# Altium schematic symbol library LaserDiode_Driver.SchLib: 93 symbols (part 1 of 3)
Pins are listed as number, name and electrical type; pins without a type are passive.

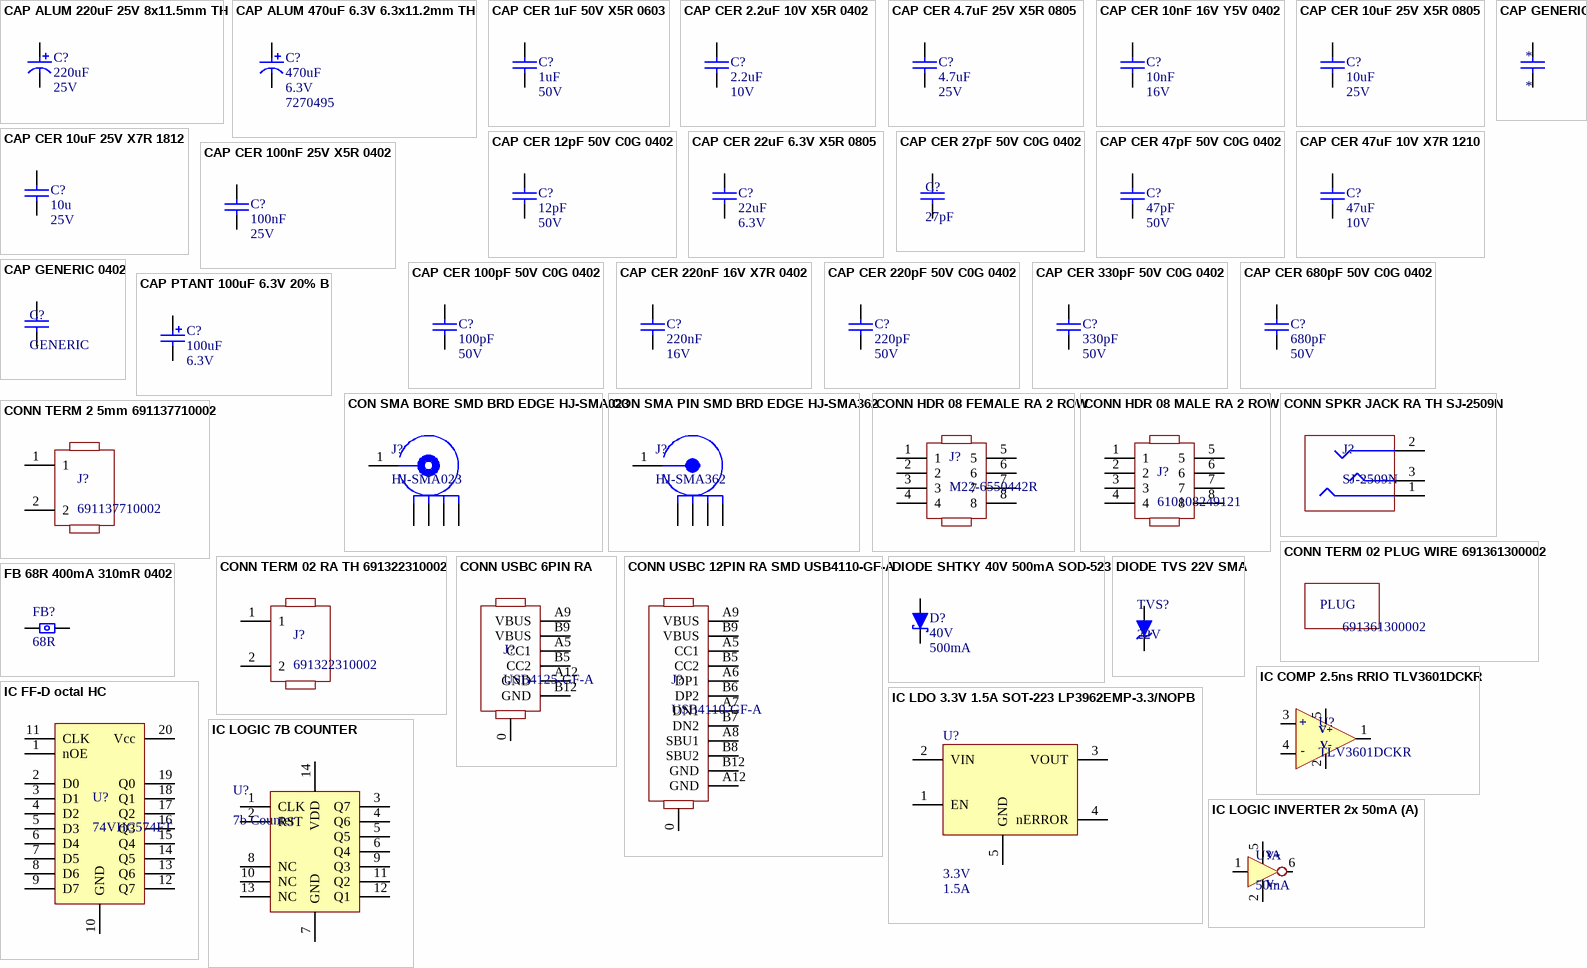
[diagram p0: symbols CAP ALUM 220uF 25V 8x11.5mm TH to IC LOGIC INVERTER 2x 50mA]

## CAP ALUM 220uF 25V 8x11.5mm TH
designator C?, comment 220uF  Voltage Rating: 25V
CAP ALUM 220UF 20% 25V RADIAL; Manufacturer: Rubycon; Manufacturer Part Number: 25YXF220MEFCT78X11.5; Ripple Current: 280mA; Impedance: 250mR; Life (Hours): 7000Hour; Supplier 1: Digi-Key; RoHS: Yes; Category: Aluminum Electrolytic Capacitors; Stock 1: 1712; Pricing 1: 1=0.37000, 10=0.26000, 50=0.18180, 100=0.15590, 500=0.11692 (USD); Mount: Through Hole; Case/Package: Radial; Min Operating Temperature: -40°C; Max Operating Temperature: 105°C; Capacitance: 220uF; Tolerance: 20%; Termination: Radial; Package Quantity: 2000; Packaging: Tape and Reel; Series: YXF; Diameter: 8mm; Height: 11.5mm; Lead Pitch: 0.138inch; Height - Seated (Max): 0.512inch; Radiation Hardening: No; RoHS Compliant: Yes; ComponentLink1URL: https://datasheet.ciiva.com/6318/e-yxf-6318234.pdf?src-supplier=Digi-Key; ComponentLink1Description: https://datasheet.ciiva.com/6318/e-yxf-6318234.pdf?src-supplier=Digi-Key; ComponentLink2URL: https://datasheet.ciiva.com/17512/e-yxf-17512937.pdf?src-supplier=Avnet+Europe; ComponentLink2Description: https://datasheet.ciiva.com/17512/e-yxf-17512937.pdf?src-supplier=Avnet+Europe; Supplier Part Number 1: 1189-3720-1-ND
footprint CAP ALUM S3.5mm D8mm H13mm
pins: 1, 2

## CAP ALUM 470uF 6.3V 6.3x11.2mm TH
designator C?, comment 470uF  Voltage Rating: 6.3V  Supplier Part Number 1: 7270495
Cap Aluminum 470uF 6.3V 20% (6.3 X 11.2mm) Radial 2.5mm 380mA 2000h 85 C Bulk; Manufacturer: Panasonic; Manufacturer Part Number: ECA-0JM471; Dielectric Material: Aluminium; Life (Hours): 2000Hour; Dissipation Factor: 0.28%; Lead/Base Style: Straight; Leakage Current: 3uA; Lead Diameter: 0.5mm; Supplier 1: RSComponents; RoHS: Yes; Category: Aluminum Electrolytic Capacitors; Stock 1: 1; Pricing 1: 25=0.12800, 625=0.07000, 2500=0.05800 (USD); Mount: Through Hole,PCB; Case/Package: Radial; Number of Pins: 2; Min Operating Temperature: -40°C; Max Operating Temperature: 85°C; Capacitance: 470uF; Tolerance: 20%; Ripple Current: 380mA; Packaging: Bulk; Package Quantity: 200; Voltage Rating (DC): 6.3V; Termination: Radial; Series: M; Construction: RADIAL; Voltage: 6.3V; Diameter: 6.3mm; Length: 11.2mm; Height: 11.2mm; Lead Pitch: 2.5mm; Height - Seated (Max): 0.48inch; Radiation Hardening: No; Lead Free: Lead Free; RoHS Compliant: Yes; REACH SVHC: No SVHC; ComponentLink1URL: https://datasheet.ciiva.com/11778/0900766b80f2e8a9-11778665.pdf?src-supplier=RSComponents; ComponentLink1Description: https://datasheet.ciiva.com/11778/0900766b80f2e8a9-11778665.pdf?src-supplier=RSComponents; ComponentLink2URL: https://datasheet.ciiva.com/91/aba0000ce12-91880.pdf?src-supplier=Digi-Key; ComponentLink2Description: https://datasheet.ciiva.com/91/aba0000ce12-91880.pdf?src-supplier=Digi-Key; ComponentLink3URL: https://datasheet.ciiva.com/2983/aba0000ce12-2983819.pdf?src-supplier=Avnet; ComponentLink3Description: https://datasheet.ciiva.com/2983/aba0000ce12-2983819.pdf?src-supplier=Avnet; ComponentLink4URL: https://datasheet.ciiva.com/48521/radial-m-eng-tds-48521274.pdf?src-supplier=Distrelec; ComponentLink4Description: https://datasheet.ciiva.com/48521/radial-m-eng-tds-48521274.pdf?src-supplier=Distrelec; ComponentLink5URL: https://datasheet.ciiva.com/24024/aba0000ce12-465472-24024007.pdf?src-supplier=Mouser; ComponentLink5Description: https://datasheet.ciiva.com/24024/aba0000ce12-465472-24024007.pdf?src-supplier=Mouser; ComponentLink6URL: https://datasheet.ciiva.com/30116/49aba0000ce12-30116557.pdf?src-supplier=Onlinecomponents.com; ComponentLink6Description: https://datasheet.ciiva.com/30116/49aba0000ce12-30116557.pdf?src-supplier=Onlinecomponents.com; ComponentLink7URL: https://datasheet.ciiva.com/15924/aba0000ce12-15924679.pdf?src-supplier=Onlinecomponents.com; ComponentLink7Description: https://datasheet.ciiva.com/15924/aba0000ce12-15924679.pdf?src-supplier=Onlinecomponents.com; ComponentLink8URL: https://datasheet.ciiva.com/46387/654936-46387366.pdf?src-supplier=Element14; ComponentLink8Description: https://datasheet.ciiva.com/46387/654936-46387366.pdf?src-supplier=Element14; ComponentLink9URL: https://datasheet.ciiva.com/15166/getdatasheetpartid-195742-15166346.pdf?src-supplier=Verical; ComponentLink9Description: https://datasheet.ciiva.com/15166/getdatasheetpartid-195742-15166346.pdf?src-supplier=Verical; ComponentLink10URL: https://datasheet.ciiva.com/14607/70067785-14607485.pdf?src-supplier=Allied+Electronics; ComponentLink10Description: https://datasheet.ciiva.com/14607/70067785-14607485.pdf?src-supplier=Allied+Electronics
footprint CAP ALUM S2.5mm D6.3mm H11mm
pins: 1, 2

## CAP CER 1uF 50V X5R 0603
designator C?, comment 1uF  Voltage Rating: 50V
Multilayer Ceramic Capacitors (High dielectric type), 50V, 1 uF, ± 10 %, 0603, X5R, RoHS; Manufacturer: Taiyo Yuden; Manufacturer Part Number: UMK107BJ105KA-T; Tolerance: 10%; Supplier 1: Digi-Key; RoHS: Yes; Category: Ceramic Capacitors; Stock 1: 955108; Pricing 1: 1=0.19000, 10=0.12900, 50=0.07760, 100=0.06560, 500=0.04484, 1000=0.03968 (USD); Mount: Surface Mount; Case/Package: 0603; Number of Pins: 2; Case Code (Metric): 1608; Case Code (Imperial): 0603; Contact Plating: Nickel; Min Operating Temperature: -55°C; Max Operating Temperature: 85°C; Capacitance: 1uF; Packaging: Tape and Reel; Package Quantity: 1; Dielectric: X5R; Voltage Rating (DC): 50V; Termination: SMD/SMT; Series: M; Construction: Flat; Length: 1.6mm; Width: 0.031inch; Height: 0.8mm; Depth: 0.8mm; Thickness: 0.035inch; Radiation Hardening: No; RoHS Compliant: Yes; REACH SVHC: Unknown; Halogen Free: Halogen Free; ComponentLink1URL: https://datasheet.ciiva.com/134/umk107bj105ka-t-ss-134740.pdf?src-supplier=Digi-Key; ComponentLink1Description: https://datasheet.ciiva.com/134/umk107bj105ka-t-ss-134740.pdf?src-supplier=Digi-Key; ComponentLink2URL: https://datasheet.ciiva.com/11601/umk107bj105ka-t-ss-11601811.pdf?src-supplier=Avnet; ComponentLink2Description: https://datasheet.ciiva.com/11601/umk107bj105ka-t-ss-11601811.pdf?src-supplier=Avnet; ComponentLink3URL: https://datasheet.ciiva.com/5744/1697715-5744913.pdf?src-supplier=Farnell; ComponentLink3Description: https://datasheet.ciiva.com/5744/1697715-5744913.pdf?src-supplier=Farnell; ComponentLink4URL: https://datasheet.ciiva.com/30199/43umk107bj105ka-t-30199791.pdf?src-supplier=Onlinecomponents.com; ComponentLink4Description: https://datasheet.ciiva.com/30199/43umk107bj105ka-t-30199791.pdf?src-supplier=Onlinecomponents.com; ComponentLink5URL: https://datasheet.ciiva.com/15922/336umk107bj105ka-t-15922611.pdf?src-supplier=Onlinecomponents.com; ComponentLink5Description: https://datasheet.ciiva.com/15922/336umk107bj105ka-t-15922611.pdf?src-supplier=Onlinecomponents.com; ComponentLink6URL: https://datasheet.ciiva.com/5427/mlcc-all-e-541559-5427036.pdf?src-supplier=Mouser; ComponentLink6Description: https://datasheet.ciiva.com/5427/mlcc-all-e-541559-5427036.pdf?src-supplier=Mouser; ComponentLink7URL: https://datasheet.ciiva.com/7975/mlcc-all-e-7975898.pdf?src-supplier=Element14; ComponentLink7Description: https://datasheet.ciiva.com/7975/mlcc-all-e-7975898.pdf?src-supplier=Element14; ComponentLink8URL: https://datasheet.ciiva.com/7975/1697715-7975608.pdf?src-supplier=Element14; ComponentLink8Description: https://datasheet.ciiva.com/7975/1697715-7975608.pdf?src-supplier=Element14; ComponentLink9URL: https://datasheet.ciiva.com/22694/1697715-22694278.pdf?src-supplier=Element14; ComponentLink9Description: https://datasheet.ciiva.com/22694/1697715-22694278.pdf?src-supplier=Element14; Supplier Part Number 1: 587-2400-1-ND
footprint c0603
pins: 1, 2

## CAP CER 2.2uF 10V X5R 0402
designator C?, comment 2.2uF  Voltage Rating: 10V
-; Manufacturer: Taiyo Yuden; Manufacturer Part Number: LMK105BJ225MV-F; Tolerance: 20%; Dielectric: X5R; Supplier 1: Newark; RoHS: Yes; Category: Ceramic Capacitors; Stock 1: 2002; Pricing 1: 1=0.10000, 25=0.03300, 100=0.02300, 250=0.02000, 500=0.01700, 1000=0.01500 (USD); Mount: Surface Mount; Case/Package: 0402; Case Code (Imperial): 0402; Case Code (Metric): 1005; Min Operating Temperature: -55°C; Max Operating Temperature: 85°C; Packaging: Tape and Reel; Capacitance: 2.2uF; Package Quantity: 1; Voltage Rating (DC): 10V; Termination: SMD/SMT; Series: M; Construction: Flat; Resistor Type: Ceramic; Length: 1mm; Width: 0.5mm; Height: 0.5mm; Thickness: 0.022inch; Depth: 0.5mm; Radiation Hardening: No; RoHS Compliant: Yes; REACH SVHC: Unknown; Halogen Free: Halogen Free; ComponentLink1URL: https://datasheet.ciiva.com/134/lmk105bj225mv-f-ss-134677.pdf?src-supplier=Digi-Key; ComponentLink1Description: https://datasheet.ciiva.com/134/lmk105bj225mv-f-ss-134677.pdf?src-supplier=Digi-Key; ComponentLink2URL: https://datasheet.ciiva.com/23631/lmk105bj225mv-f-ss-23631491.pdf?src-supplier=Newark; ComponentLink2Description: https://datasheet.ciiva.com/23631/lmk105bj225mv-f-ss-23631491.pdf?src-supplier=Newark; ComponentLink3URL: https://datasheet.ciiva.com/15921/286lmk105bj225mv-f-15921222.pdf?src-supplier=Onlinecomponents.com; ComponentLink3Description: https://datasheet.ciiva.com/15921/286lmk105bj225mv-f-15921222.pdf?src-supplier=Onlinecomponents.com; ComponentLink4URL: https://datasheet.ciiva.com/30190/500lmk105bj225mv-f-30190498.pdf?src-supplier=Onlinecomponents.com; ComponentLink4Description: https://datasheet.ciiva.com/30190/500lmk105bj225mv-f-30190498.pdf?src-supplier=Onlinecomponents.com; Supplier Part Number 1: 78T6311
footprint C0402
pins: 1, 2

## CAP CER 4.7uF 25V X5R 0805
designator C?, comment 4.7uF  Voltage Rating: 25V
Cap Ceramic 4.7uF 25V X5R 10% SMD 0805 85C Embossed T/R; Manufacturer: Samsung; Manufacturer Part Number: CL21A475KAQNNNE; Supplier 1: Digi-Key; RoHS: Yes; Category: Ceramic Capacitors; Stock 1: 3540; Pricing 1: 1=0.11000, 10=0.08000, 50=0.04520, 100=0.03740, 500=0.02624, 1000=0.02172 (USD); Mount: Surface Mount; Case/Package: 0805; Case Code (Metric): 2012; Case Code (Imperial): 0805; Min Operating Temperature: -55°C; Max Operating Temperature: 85°C; Package Quantity: 1; Packaging: Tape and Reel; Capacitance: 4.7uF; Tolerance: 10%; Dielectric: X5R; Voltage Rating (DC): 25V; Series: CL; Construction: Flat; Length: 2mm; Width: 0.049inch; Height: 1.25mm; Thickness: 0.055inch; Depth: 1.25mm; Radiation Hardening: No; Lead Free: Lead Free; RoHS Compliant: Yes; ComponentLink1URL: https://datasheet.ciiva.com/25798/cl21a475kaqnnne-25798882.pdf?src-supplier=Digi-Key; ComponentLink1Description: https://datasheet.ciiva.com/25798/cl21a475kaqnnne-25798882.pdf?src-supplier=Digi-Key; Supplier Part Number 1: 1276-1244-1-ND
footprint c0805
pins: 1, 2

## CAP CER 10nF 16V Y5V 0402
designator C?, comment 10nF  Voltage Rating: 16V
0402 10 nF 16 V -20 / +80 % Tolerance Y5V SMT Multilayer Ceramic Capacitor; Manufacturer: Yageo; Manufacturer Part Number: CC0402ZRY5V7BB103; Tolerance: 80%; Insulation Resistance: 100GR; Supplier 1: Future Electronics; RoHS: Yes; Category: Ceramic Capacitors; Stock 1: 10000; Pricing 1: 10000=0.00340, 30000=0.00320, 100000=0.00300, 200000=0.00290, 400000=0.00270 (USD); Mount: Surface Mount; Case/Package: 0402; Number of Pins: 2; Case Code (Imperial): 0402; Case Code (Metric): 1005; Dielectric Material: Ceramic; Min Operating Temperature: -55°C; Max Operating Temperature: 85°C; Capacitance: 10nF; Packaging: Tape and Reel; Voltage Rating (DC): 16V; Dielectric: Y5V; Termination: SMD/SMT; Series: CC; Package Quantity: 10000; Construction: Flat; Length: 1mm; Width: 0.02inch; Height: 0.5mm; Depth: 0.5mm; Thickness: 0.022inch; Terminal Length: 0.225mm; Radiation Hardening: No; RoHS Compliant: Yes; Lead Free: Lead Free; REACH SVHC: No SVHC; Halogen Free: Halogen Free; ComponentLink1URL: https://datasheet.ciiva.com/144/mlccorderingcode-144484.pdf?src-supplier=Digi-Key; ComponentLink1Description: https://datasheet.ciiva.com/144/mlccorderingcode-144484.pdf?src-supplier=Digi-Key; ComponentLink2URL: https://datasheet.ciiva.com/144/mlccorderingcode-144485.pdf?src-supplier=Digi-Key; ComponentLink2Description: https://datasheet.ciiva.com/144/mlccorderingcode-144485.pdf?src-supplier=Digi-Key; ComponentLink3URL: https://datasheet.ciiva.com/144/mlccorderingcode-144486.pdf?src-supplier=Digi-Key; ComponentLink3Description: https://datasheet.ciiva.com/144/mlccorderingcode-144486.pdf?src-supplier=Digi-Key; ComponentLink4URL: https://datasheet.ciiva.com/11586/upy-gphc-y5v-6-3v-to-50v-5-11586517.pdf?src-supplier=Avnet; ComponentLink4Description: https://datasheet.ciiva.com/11586/upy-gphc-y5v-6-3v-to-50v-5-11586517.pdf?src-supplier=Avnet; ComponentLink5URL: https://datasheet.ciiva.com/5789/1132289-5789565.pdf?src-supplier=Farnell; ComponentLink5Description: https://datasheet.ciiva.com/5789/1132289-5789565.pdf?src-supplier=Farnell; ComponentLink6URL: https://datasheet.ciiva.com/5789/1132289-5789566.pdf?src-supplier=Farnell; ComponentLink6Description: https://datasheet.ciiva.com/5789/1132289-5789566.pdf?src-supplier=Farnell; ComponentLink7URL: https://datasheet.ciiva.com/17437/upy-gphc-y5v-6-3v-to-50v-5-17437221.pdf?src-supplier=Avnet+Europe; ComponentLink7Description: https://datasheet.ciiva.com/17437/upy-gphc-y5v-6-3v-to-50v-5-17437221.pdf?src-supplier=Avnet+Europe; ComponentLink8URL: https://datasheet.ciiva.com/8033/1132289-8033641.pdf?src-supplier=Element14; ComponentLink8Description: https://datasheet.ciiva.com/8033/1132289-8033641.pdf?src-supplier=Element14; ComponentLink9URL: https://datasheet.ciiva.com/8033/1132289-8033642.pdf?src-supplier=Element14; ComponentLink9Description: https://datasheet.ciiva.com/8033/1132289-8033642.pdf?src-supplier=Element14; Supplier Part Number 1: 1300987
footprint c0402
pins: 1, 2

## CAP CER 10uF 25V X5R 0805
designator C?, comment 10uF  Voltage Rating: 25V
Cap Ceramic 10uF 25V X5R 10% SMD 0805 85°C Embossed T/R; Manufacturer: Samsung; Manufacturer Part Number: CL21A106KAYNNNE; Supplier 1: Digi-Key; RoHS: Yes; Category: Ceramic Capacitors; Stock 1: 2266338; Pricing 1: 2000=0.03549, 4000=0.03247 (USD); Mount: Surface Mount; Case/Package: 0805; Case Code (Metric): 2012; Case Code (Imperial): 0805; Min Operating Temperature: -55°C; Max Operating Temperature: 85°C; Package Quantity: 1; Packaging: Tape and Reel; Capacitance: 10uF; Tolerance: 10%; Dielectric: X5R; Series: CL; Construction: Flat; Length: 2mm; Width: 0.049inch; Height: 1.25mm; Depth: 1.25mm; Thickness: 0.057inch; Radiation Hardening: No; RoHS Compliant: Yes; ComponentLink1URL: https://datasheet.ciiva.com/25796/cl21a106kaynnne-25796720.pdf?src-supplier=Digi-Key; ComponentLink1Description: https://datasheet.ciiva.com/25796/cl21a106kaynnne-25796720.pdf?src-supplier=Digi-Key; ComponentLink2URL: https://datasheet.ciiva.com/26838/getdatasheetpartid-357558-26838583.pdf?src-supplier=Verical; ComponentLink2Description: https://datasheet.ciiva.com/26838/getdatasheetpartid-357558-26838583.pdf?src-supplier=Verical; Supplier Part Number 1: 1276-2891-2-ND
footprint c0805
pins: 1, 2

## CAP CER 10uF 25V X7R 1812
designator C?, comment 10u  Voltage Rating: 25V
CGA Series 1812 10 uF 25 V ±10 % Tolerance X7R SMT Multilayer Ceramic Capacitor; Manufacturer: TDK; Manufacturer Part Number: CGA8P2X7R1E106K250KA; Tolerance: 10%; Capacitance: 10uF; Supplier 1: Arrow Electronics; RoHS: Yes; Category: Ceramic Capacitors; Stock 1: 3000; Pricing 1: 500=0.41050 (USD); Mount: Surface Mount; Case/Package: 1812; Case Code (Imperial): 1812; Case Code (Metric): 4532; Weight: 0.000952oz; Min Operating Temperature: -55°C; Max Operating Temperature: 125°C; Packaging: Tape and Reel; Termination: SMD/SMT; Series: CGA; Voltage Rating (DC): 25V; Package Quantity: 500; Dielectric: X7R; Resistor Type: Ceramic; Length: 4.5mm; Width: 3.2mm; Height: 1.6mm; Thickness: 0.098inch; Depth: 3.2mm; Ratings: AEC-Q200; Lead Free: Lead Free; RoHS Compliant: Yes; ComponentLink1URL: https://datasheet.ciiva.com/24217/cga8p2x7r1e106k250ka-266081-24217140.pdf?src-supplier=Mouser; ComponentLink1Description: https://datasheet.ciiva.com/24217/cga8p2x7r1e106k250ka-266081-24217140.pdf?src-supplier=Mouser; Supplier Part Number 1: CGA8P2X7R1E106K250KA
footprint c1812 (Chip Capacitor, 2-Leads, Body 4.50x3.20mm, IPC Medium Density)
pins: 1, 2

## CAP CER 12pF 50V C0G 0402
designator C?, comment 12pF  Voltage: 50V
Ceramic capacitor SMD-0402 12pF /50V C0G# J +-5%, Samsung, RoHS; Manufacturer Part Number: CL05C120JB5NNNC; Tolerance: 5%; Dielectric: C0G; Temperature Coefficient: 300ppm/°C; Supplier 1: Digi-Key; Manufacturer: Samsung; RoHS: Yes; Category: Ceramic Capacitors; Stock 1: 41998; Pricing 1: 10000=0.00386, 20000=0.00367 (USD); Mount: Surface Mount; Case/Package: 0402; Case Code (Metric): 1005; Case Code (Imperial): 0402; Material: Ceramic; Contact Plating: Tin; Min Operating Temperature: -55°C; Max Operating Temperature: 125°C; Capacitance: 12pF; Package Quantity: 1; Packaging: Tape and Reel; Voltage Rating: 50V; Series: CL; Construction: Flat; Voltage Rating (DC): 50V; Length: 1mm; Width: 0.02inch; Height: 0.5mm; Thickness: 0.022inch; Depth: 0.5mm; Radiation Hardening: No; RoHS Compliant: Yes; Lead Free: Lead Free; ComponentLink1URL: https://datasheet.ciiva.com/25806/cl05c120jb5nnnc-25806484.pdf?src-supplier=Digi-Key; ComponentLink1Description: https://datasheet.ciiva.com/25806/cl05c120jb5nnnc-25806484.pdf?src-supplier=Digi-Key; ComponentLink2URL: https://datasheet.ciiva.com/26838/getdatasheetpartid-658047-26838280.pdf?src-supplier=Verical; ComponentLink2Description: https://datasheet.ciiva.com/26838/getdatasheetpartid-658047-26838280.pdf?src-supplier=Verical; ComponentLink3URL: https://datasheet.ciiva.com/29198/458703-da-01-en-vs-kondensator-0402-29198421.pdf?src-supplier=Conrad; ComponentLink3Description: https://datasheet.ciiva.com/29198/458703-da-01-en-vs-kondensator-0402-29198421.pdf?src-supplier=Conrad; ComponentLink4URL: https://datasheet.ciiva.com/16449/cl05b104kq5nnnc-16449055.pdf?src-supplier=Future+Electronics; ComponentLink4Description: https://datasheet.ciiva.com/16449/cl05b104kq5nnnc-16449055.pdf?src-supplier=Future+Electronics; Supplier Part Number 1: 1276-1178-2-ND
footprint C0402
pins: 1, 2

## CAP CER 22uF 6.3V X5R 0805
designator C?, comment 22uF  Voltage Rating (DC): 6.3V
CAP CER 22UF 6.3V X5R 0805 / Cap Ceramic 22uF 6.3V X5R 20% Pad SMD 0805 85¡ãC T/R; Manufacturer: Samsung; Manufacturer Part Number: CL21A226MQQNNNE; Supplier 1: Digi-Key; RoHS: Yes; Category: Ceramic Capacitors; Stock 1: 657907; Pricing 1: 1=0.14000, 10=0.10200, 50=0.05780, 100=0.04780, 500=0.03356, 1000=0.02778 (USD); Mount: Surface Mount; Case/Package: 0805; Case Code (Metric): 2012; Case Code (Imperial): 0805; Contact Plating: Tin; Min Operating Temperature: -55°C; Max Operating Temperature: 85°C; Capacitance: 22uF; Tolerance: 20%; Dielectric: X5R; Package Quantity: 2000; Packaging: Tape and Reel; Voltage Rating: 6.3V; Series: CL; Length: 0.079inch; Width: 0.049inch; Height: 1.25mm; Thickness: 0.055inch; Depth: 1.25mm; Radiation Hardening: No; Lead Free: Lead Free; RoHS Compliant: Yes; ComponentLink1URL: https://datasheet.ciiva.com/25796/cl21a226mqqnnne-25796195.pdf?src-supplier=Digi-Key; ComponentLink1Description: https://datasheet.ciiva.com/25796/cl21a226mqqnnne-25796195.pdf?src-supplier=Digi-Key; ComponentLink2URL: https://datasheet.ciiva.com/26838/getdatasheetpartid-357607-26838611.pdf?src-supplier=Verical; ComponentLink2Description: https://datasheet.ciiva.com/26838/getdatasheetpartid-357607-26838611.pdf?src-supplier=Verical; ComponentLink3URL: https://datasheet.ciiva.com/16361/cl21a226mqqnnne-16361189.pdf?src-supplier=Future+Electronics; ComponentLink3Description: https://datasheet.ciiva.com/16361/cl21a226mqqnnne-16361189.pdf?src-supplier=Future+Electronics; ComponentLink4URL: https://datasheet.ciiva.com/26787/cl21a226mqqnnne-26787006.pdf?src-supplier=IIIC; ComponentLink4Description: https://datasheet.ciiva.com/26787/cl21a226mqqnnne-26787006.pdf?src-supplier=IIIC; Supplier Part Number 1: 1276-1100-1-ND
footprint C0805
pins: 1, 2

## CAP CER 27pF 50V C0G 0402
designator C?, comment 27pF
贴片陶瓷电容  27pF ±5% 50V C0G(NP0) 0402; Manufacturer: Samsung; Manufacturer Part Number: CL05C270JB5NNNC; Material: Ceramic; Temperature Coefficient: 300ppm/°C; Supplier 1: RSComponents; RoHS: Yes; Category: Ceramic Capacitors; Stock 1: 1; Pricing 1: 10000=0.00700, 30000=0.00700, 50000=0.00500, 100000=0.00500, 250000=0.00400 (USD); Mount: Surface Mount; Case/Package: 0402; Case Code (Metric): 1005; Case Code (Imperial): 0402; Contact Plating: Tin; Min Operating Temperature: -55°C; Max Operating Temperature: 125°C; Capacitance: 27pF; Tolerance: 5%; Packaging: Tape and Reel; Package Quantity: 1; Voltage Rating: 50V; Dielectric: C0G; Voltage: 50V; Series: CL; Voltage Rating (DC): 50V; Length: 1mm; Width: 0.02inch; Height: 0.5mm; Thickness: 0.022inch; Depth: 0.5mm; Radiation Hardening: No; RoHS Compliant: Yes; Lead Free: Lead Free; ComponentLink1URL: https://datasheet.ciiva.com/25806/cl05c270jb5nnnc-25806401.pdf?src-supplier=Digi-Key; ComponentLink1Description: https://datasheet.ciiva.com/25806/cl05c270jb5nnnc-25806401.pdf?src-supplier=Digi-Key; ComponentLink2URL: https://datasheet.ciiva.com/26838/getdatasheetpartid-359687-26838295.pdf?src-supplier=Verical; ComponentLink2Description: https://datasheet.ciiva.com/26838/getdatasheetpartid-359687-26838295.pdf?src-supplier=Verical; ComponentLink3URL: https://datasheet.ciiva.com/29198/458634-da-01-en-vs-kondensator-0402-29198410.pdf?src-supplier=Conrad; ComponentLink3Description: https://datasheet.ciiva.com/29198/458634-da-01-en-vs-kondensator-0402-29198410.pdf?src-supplier=Conrad; ComponentLink4URL: https://datasheet.ciiva.com/16391/cl05b104kq5nnnc-16391291.pdf?src-supplier=Future+Electronics; ComponentLink4Description: https://datasheet.ciiva.com/16391/cl05b104kq5nnnc-16391291.pdf?src-supplier=Future+Electronics; Supplier Part Number 1: 7661429
footprint C0402
pins: 1, 2

## CAP CER 47pF 50V C0G 0402
designator C?, comment 47pF  Voltage Rating: 50V
Ceramic capacitor SMD-0402 47pF /50V C0G # K +-5%, Samsung, RoHS; Manufacturer Part Number: CL05C470JB5NNNC; Tolerance: 5%; Temperature Coefficient: 300ppm/°C; Supplier 1: RSComponents; Manufacturer: Samsung; RoHS: Yes; Category: Ceramic Capacitors; Stock 1: 130000; Pricing 1: 10000=0.00300, 30000=0.00300, 50000=0.00300, 100000=0.00300, 250000=0.00200 (GBP); Mount: Surface Mount; Case/Package: 0402; Case Code (Metric): 1005; Case Code (Imperial): 0402; Material: Ceramic; Contact Plating: Tin; Min Operating Temperature: -55°C; Max Operating Temperature: 125°C; Capacitance: 47pF; Dielectric: C0G; Packaging: Tape and Reel; Package Quantity: 1; Series: CL; Construction: Flat; Voltage: 50V; Length: 1mm; Width: 0.02inch; Height: 0.5mm; Thickness: 0.022inch; Depth: 0.5mm; Radiation Hardening: No; RoHS Compliant: Yes; ComponentLink1URL: https://datasheet.ciiva.com/15195/getdatasheetpartid-466159-15195693.pdf?src-supplier=Verical; ComponentLink1Description: https://datasheet.ciiva.com/15195/getdatasheetpartid-466159-15195693.pdf?src-supplier=Verical; ComponentLink2URL: https://datasheet.ciiva.com/29198/458555-da-01-en-vs-kondensator-0402-29198397.pdf?src-supplier=Conrad; ComponentLink2Description: https://datasheet.ciiva.com/29198/458555-da-01-en-vs-kondensator-0402-29198397.pdf?src-supplier=Conrad; ComponentLink3URL: https://datasheet.ciiva.com/16297/cl05b104kq5nnnc-16297131.pdf?src-supplier=Future+Electronics; ComponentLink3Description: https://datasheet.ciiva.com/16297/cl05b104kq5nnnc-16297131.pdf?src-supplier=Future+Electronics; Supplier Part Number 1: 7661435
footprint C0402
pins: 1, 2

## CAP CER 47uF 10V X7R 1210
designator C?, comment 47uF  Voltage Rating: 10V
CAP CER 47UF 10V 20% X7R 1210; Manufacturer: Murata; Manufacturer Part Number: GRM32ER71A476ME15L; Supplier 1: Newark; RoHS: Yes; Category: Ceramic Capacitors; Stock 1: 39686; Pricing 1: 1=0.19500, 10=0.19500, 25=0.19500, 50=0.19500, 100=0.19500 (USD); Mount: Surface Mount; Case/Package: 1210; Case Code (Metric): 3225; Case Code (Imperial): 1210; Min Operating Temperature: -55°C; Max Operating Temperature: 125°C; Capacitance: 47uF; Tolerance: 20%; Packaging: Tape and Reel; Package Quantity: 1; Voltage Rating (DC): 10V; Termination: SMD/SMT; Voltage: 10V; Series: GRM; Construction: Flat; Length: 3.2mm; Width: 0.098inch; Height: 2.5mm; Thickness: 0.106inch; Depth: 2.5mm; Radiation Hardening: No; Reach SVHC Compliant: Yes; Lead Free: Lead Free; RoHS Compliant: Yes; ComponentLink1URL: https://datasheet.ciiva.com/46441/1754712-46441338.pdf?src-supplier=Element14; ComponentLink1Description: https://datasheet.ciiva.com/46441/1754712-46441338.pdf?src-supplier=Element14; ComponentLink2URL: https://datasheet.ciiva.com/6264/partnumbering-e-01-6264587.pdf?src-supplier=Digi-Key; ComponentLink2Description: https://datasheet.ciiva.com/6264/partnumbering-e-01-6264587.pdf?src-supplier=Digi-Key; ComponentLink3URL: https://datasheet.ciiva.com/6264/partnumbering-e-01-6264586.pdf?src-supplier=Digi-Key; ComponentLink3Description: https://datasheet.ciiva.com/6264/partnumbering-e-01-6264586.pdf?src-supplier=Digi-Key; ComponentLink4URL: https://datasheet.ciiva.com/6264/partnumbering-e-01-6264588.pdf?src-supplier=Digi-Key; ComponentLink4Description: https://datasheet.ciiva.com/6264/partnumbering-e-01-6264588.pdf?src-supplier=Digi-Key; ComponentLink5URL: https://datasheet.ciiva.com/11606/product-11606523.pdf?src-supplier=Avnet; ComponentLink5Description: https://datasheet.ciiva.com/11606/product-11606523.pdf?src-supplier=Avnet; ComponentLink6URL: https://datasheet.ciiva.com/16497/product-16497006.pdf?src-supplier=Future+Electronics; ComponentLink6Description: https://datasheet.ciiva.com/16497/product-16497006.pdf?src-supplier=Future+Electronics; Supplier Part Number 1: 40X5909; Dielectric: X7R
footprint C1210 (Chip Capacitor, 2-Leads, Body 3.20x2.50mm, IPC Medium Density)
pins: 1, 2

## CAP CER 100nF 25V X5R 0402
designator C?, comment 100nF  Voltage Rating: 25V
Cap Ceramic 0.1uF 25V X5R 10% Pad SMD 0402 85¡ãC T/R / Multi Layer Ceramic Capacitor (MLCC); Manufacturer: Samsung; Manufacturer Part Number: CL05A104KA5NNNC; Supplier 1: Digi-Key; RoHS: Yes; Category: Ceramic Capacitors; Stock 1: 8053194; Pricing 1: 1=0.10000, 10=0.01100, 50=0.00600, 100=0.00490, 500=0.00346, 1000=0.00272, 2500=0.00248, 5000=0.00228 (USD); Mount: Surface Mount; Case/Package: 0402; Case Code (Metric): 1005; Case Code (Imperial): 0402; Min Operating Temperature: -55°C; Max Operating Temperature: 85°C; Capacitance: 100nF; Tolerance: 10%; Dielectric: X5R; Packaging: Tape and Reel; Package Quantity: 1; Voltage: 25V; Series: CL; Construction: Flat; Voltage Rating (DC): 25V; Length: 1mm; Width: 0.02inch; Height: 0.5mm; Thickness: 0.022inch; Depth: 0.5mm; Radiation Hardening: No; Lead Free: Lead Free; ComponentLink1URL: https://datasheet.ciiva.com/25802/cl05a104ka5nnnc-25802704.pdf?src-supplier=Digi-Key; ComponentLink1Description: https://datasheet.ciiva.com/25802/cl05a104ka5nnnc-25802704.pdf?src-supplier=Digi-Key; ComponentLink2URL: https://datasheet.ciiva.com/26838/getdatasheetpartid-357412-26838142.pdf?src-supplier=Verical; ComponentLink2Description: https://datasheet.ciiva.com/26838/getdatasheetpartid-357412-26838142.pdf?src-supplier=Verical; ComponentLink3URL: https://datasheet.ciiva.com/16437/cl05a104ka5nnnc-16437369.pdf?src-supplier=Future+Electronics; ComponentLink3Description: https://datasheet.ciiva.com/16437/cl05a104ka5nnnc-16437369.pdf?src-supplier=Future+Electronics; ComponentLink4URL: https://datasheet.ciiva.com/26309/mlcc-catalogdownload2013-eng-26309014.pdf?src-supplier=Distrelec; ComponentLink4Description: https://datasheet.ciiva.com/26309/mlcc-catalogdownload2013-eng-26309014.pdf?src-supplier=Distrelec; Supplier Part Number 1: 1276-1043-1-ND
footprint C0402
pins: 1, 2

## CAP CER 100pF 50V C0G 0402
designator C?, comment 100pF  Voltage Rating (DC): 50V
0402 100 pF 50 V ±5% Tolerance NP0/C0G Multilayer Ceramic Chip Capacitor; Manufacturer: Yageo; Manufacturer Part Number: CC0402JPNPO9BN101; Dielectric: C0G; Supplier 1: Digi-Key; RoHS: Yes; Category: Ceramic Capacitors; Stock 1: 83787; Pricing 1: 1=0.10000, 10=0.01900, 50=0.01040, 100=0.00850, 500=0.00604, 1000=0.00475, 2500=0.00432, 5000=0.00397 (USD); Case/Package: 0402; Case Code (Imperial): 0402; Case Code (Metric): 1005; Weight: 2.3E-05oz; Min Operating Temperature: -55°C; Max Operating Temperature: 125°C; Tolerance: 5%; Packaging: Tape and Reel; Capacitance: 100pF; Termination: SMD/SMT; Resistor Type: Ceramic; Length: 1mm; Width: 0.5mm; Depth: 0.5mm; RoHS Compliant: Yes; ComponentLink1URL: http://www.mouser.com/ds/2/447/Yageo_UPY-GP_NP0_16V-to-50V_9-358835.pdf?src-supplier=Mouser; ComponentLink1Description: http://www.mouser.com/ds/2/447/Yageo_UPY-GP_NP0_16V-to-50V_9-358835.pdf?src-supplier=Mouser; ComponentLink2URL: http://components.arrow.com/part/dataview/0323_04038301?src-supplier=Arrow+Europe; ComponentLink2Description: http://components.arrow.com/part/dataview/0323_04038301?src-supplier=Arrow+Europe; Supplier Part Number 1: 13-CC0402JPNPO9BN101CT-ND
footprint C0402
pins: 1, 2

## CAP CER 220nF 16V X7R 0402
designator C?, comment 220nF  Voltage Rating: 16V
CAP CER 0.22UF 16V X7R 0402; Manufacturer: Samsung; Manufacturer Part Number: CL05B224KO5NNNC; Tolerance: 10%; Supplier 1: Newark; RoHS: Yes; Category: Ceramic Capacitors; Stock 1: 3820; Pricing 1: 1=0.10000, 25=0.03000, 100=0.01300, 250=0.01100, 500=0.00900, 1000=0.00700 (USD); Mount: Surface Mount; Case/Package: 0402; Case Code (Metric): 1005; Case Code (Imperial): 0402; Min Operating Temperature: -55°C; Max Operating Temperature: 125°C; Capacitance: 220nF; Dielectric: X7R; Packaging: Tape and Reel; Package Quantity: 1; Series: CL; Construction: Flat; Length: 1mm; Width: 0.02inch; Height: 0.5mm; Thickness: 0.022inch; Depth: 0.5mm; Radiation Hardening: No; RoHS Compliant: Yes; ComponentLink1URL: https://datasheet.ciiva.com/25800/cl05b224ko5nnnc-25800450.pdf?src-supplier=Digi-Key; ComponentLink1Description: https://datasheet.ciiva.com/25800/cl05b224ko5nnnc-25800450.pdf?src-supplier=Digi-Key; ComponentLink2URL: https://datasheet.ciiva.com/16428/cl05b224ko5nnnc-16428810.pdf?src-supplier=Future+Electronics; ComponentLink2Description: https://datasheet.ciiva.com/16428/cl05b224ko5nnnc-16428810.pdf?src-supplier=Future+Electronics; ComponentLink3URL: https://datasheet.ciiva.com/26838/getdatasheetpartid-358459-26838228.pdf?src-supplier=Verical; ComponentLink3Description: https://datasheet.ciiva.com/26838/getdatasheetpartid-358459-26838228.pdf?src-supplier=Verical; Supplier Part Number 1: 82AC9227
footprint C0402
pins: 1, 2

## CAP CER 220pF 50V C0G 0402
designator C?, comment 220pF  Voltage Rating (DC): 50V
Multilayer Ceramic Capacitor, 220 Pf, 5%, C0G / Np0, 50 V, 0402 [1005 Metric] Rohs Compliant: Yes; Manufacturer: Walsin Technologies; Manufacturer Part Number: 0402N221J500CT; Insulation Resistance: 10GR; Supplier 1: Newark; RoHS: Yes; Category: Ceramic Capacitors; Stock 1: 50000; Pricing 1: 1=0.00600, 10000=0.00600, 20000=0.00500 (USD); Case/Package: 0402; Case Code (Metric): 1005; Case Code (Imperial): 0402; Min Operating Temperature: -55°C; Max Operating Temperature: 125°C; Voltage Rating: 50V; Tolerance: 5%; Capacitance: 220pF; Packaging: Tape and Reel; Dielectric: C0G; Length: 1mm; Depth: 0.5mm; Radiation Hardening: No; REACH SVHC: Unknown; Lead Free: Lead Free; RoHS Compliant: Yes; ComponentLink1URL: https://datasheet.ciiva.com/26864/getdatasheetpartid-414404-26864480.pdf?src-supplier=Verical; ComponentLink1Description: https://datasheet.ciiva.com/26864/getdatasheetpartid-414404-26864480.pdf?src-supplier=Verical; Supplier Part Number 1: 58Y7643
footprint C0402
pins: 1, 2

## CAP CER 330pF 50V C0G 0402
designator C?, comment 330pF  Voltage Rating: 50V
Multilayer Ceramic Capacitor, 330 pF, 5%, C0G / NP0, 50 V, 0402 [1005 Metric] RoHS Compliant: Yes; Manufacturer: Walsin Technologies; Manufacturer Part Number: 0402N331J500CT; Supplier 1: Digi-Key; RoHS: Yes; Category: Ceramic Capacitors; Stock 1: 670585; Pricing 1: 1=0.10000, 10=0.02700, 50=0.01460, 100=0.01190, 500=0.00848, 1000=0.00666, 2500=0.00605, 5000=0.00557 (USD); Case/Package: 0402; Case Code (Metric): 1005; Case Code (Imperial): 0402; Min Operating Temperature: -55°C; Max Operating Temperature: 125°C; Tolerance: 5%; Packaging: Tape and Reel; Capacitance: 330pF; Dielectric: C0G; Voltage Rating (DC): 50V; Length: 1mm; Depth: 0.5mm; REACH SVHC: Unknown; RoHS Compliant: Yes; ComponentLink1URL: http://www.farnell.com/datasheets/1958513.pdf?src-supplier=Farnell; ComponentLink1Description: http://www.farnell.com/datasheets/1958513.pdf?src-supplier=Farnell; ComponentLink2URL: http://www.farnell.com/datasheets/2340522.pdf?src-supplier=Farnell; ComponentLink2Description: http://www.farnell.com/datasheets/2340522.pdf?src-supplier=Farnell; ComponentLink3URL: http://components.arrow.com/part/dataview/0323_03460079?src-supplier=Arrow+Europe; ComponentLink3Description: http://components.arrow.com/part/dataview/0323_03460079?src-supplier=Arrow+Europe; ComponentLink4URL: http://www.farnell.com/datasheets/1958513.pdf?src-supplier=Element14; ComponentLink4Description: http://www.farnell.com/datasheets/1958513.pdf?src-supplier=Element14; ComponentLink5URL: http://www.passivecomponent.com/wp-content/uploads/2018/10/MLCC.pdf?src-supplier=Digi-Key; ComponentLink5Description: http://www.passivecomponent.com/wp-content/uploads/2018/10/MLCC.pdf?src-supplier=Digi-Key; Supplier Part Number 1: 1292-1308-1-ND
footprint c0402
pins: 1, 2

## CAP CER 680pF 50V C0G 0402
designator C?, comment 680pF  Voltage Rating (DC): 50V
Cap Ceramic 680pF 50V C0G 5% SMD 0402 125°C Paper T/R; Manufacturer: Samsung; Manufacturer Part Number: CL05C681JB5NNNC; Supplier 1: Newark; RoHS: Yes; Category: Ceramic Capacitors; Stock 1: 45700; Pricing 1: 1=0.00500, 25=0.00500, 100=0.00500, 250=0.00500, 500=0.00500, 1000=0.00500 (USD); Mount: Surface Mount; Case/Package: 0402; Case Code (Metric): 1005; Case Code (Imperial): 0402; Min Operating Temperature: -55°C; Max Operating Temperature: 125°C; Capacitance: 680pF; Tolerance: 5%; Dielectric: C0G; Packaging: Tape and Reel; Voltage Rating: 50V; Series: CL; Construction: Flat; Length: 1mm; Width: 0.02inch; Height: 0.5mm; Thickness: 0.022inch; Depth: 0.5mm; Radiation Hardening: No; Lead Free: Lead Free; RoHS Compliant: Yes; ComponentLink1URL: https://datasheet.ciiva.com/25711/cl05c681jb5nnnc-25711552.pdf?src-supplier=Digi-Key; ComponentLink1Description: https://datasheet.ciiva.com/25711/cl05c681jb5nnnc-25711552.pdf?src-supplier=Digi-Key; ComponentLink2URL: https://datasheet.ciiva.com/16200/cl05c681jb5nnnc-16200558.pdf?src-supplier=Future+Electronics; ComponentLink2Description: https://datasheet.ciiva.com/16200/cl05c681jb5nnnc-16200558.pdf?src-supplier=Future+Electronics; Supplier Part Number 1: 82AC9265
footprint c0402
pins: 1, 2

## CAP GENERIC
designator *
pins: 1, 2

## CAP GENERIC 0402
designator C?, comment GENERIC
footprint C0402
pins: 1, 2

## CAP PTANT 100uF 6.3V 20% B
designator C?, comment 100uF  Voltage Rating: 6.3V
Capacitor Tantalum Polymer 100uF 20% 6.3V 2-Pin Surface Mount T/R; Manufacturer: Kyocera AVX; Manufacturer Part Number: TCJB107M006R0055E; Supplier 1: Digi-Key; RoHS: Yes; Stock 1: 3593; Pricing 1: 1=0.76000, 10=0.56400, 50=0.45080, 100=0.38640, 500=0.30590, 1000=0.25760 (USD); Supplier Part Number 1: 478-13221-1-ND
footprint CAP TANT B (Molded Capacitor, 2-Leads, Body 3.50x2.85mm, IPC Medium Density)
pins: 1, 2

## CON SMA BORE SMD BRD EDGE HJ-SMA023
designator J?, comment HJ-SMA023
footprint SMA SMD BORE BRD EDGE
pins: 0 2, 0 3, 0 4, 0 5, 1

## CON SMA PIN SMD BRD EDGE HJ-SMA362
designator J?, comment HJ-SMA362
footprint SMA SMD PIN BRD EDGE
pins: 0 2, 0 3, 0 4, 0 5, 1

## CONN HDR 08 FEMALE RA 2 ROW
designator J?, comment M22-6550442R
Conn Socket Strip RCP 8 POS 2mm Solder RA SMD T/R; Manufacturer: Harwin; Connector Type: Receptacle,Forked; Number of Positions: 8; Current Rating: 2A; Supplier 1: Newark; Manufacturer Part Number: M22-6550442R; RoHS: Yes; Category: Connectors; Stock 1: 750; Pricing 1: 1=1.17000, 100=0.91900, 250=0.84000, 500=0.76600, 1000=0.71200 (USD); Mount: Surface Mount; Contact Plating: Gold; Contact Material: Bronze; Insulation Color: Black; Insulation Material: Polymer; Contact Shape: Square; Min Operating Temperature: -40°C; Max Operating Temperature: 105°C; Fastening Type: Push,Pull; Packaging: Cut Tape; Number of Rows: 2; Termination: Solder; Flammability Rating: UL94 V-0; RoHS Compliant: Yes; ComponentLink1URL: https://cdn.harwin.com/pdfs/M22-655R.pdf?src-supplier=Digi-Key; ComponentLink1Description: https://cdn.harwin.com/pdfs/M22-655R.pdf?src-supplier=Digi-Key; Supplier Part Number 1: 45AJ6425
footprint CONN HDR 08 FEMALE RA 2ROW
pins: 1, 2, 3, 4, 5, 6, 7, 8

## CONN HDR 08 MALE RA 2 ROW
designator J?, comment 610108249121
SMT Angled Pin Header WR-PHD, Pitch 2.54 mm, Dual Row, 8 pins; Manufacturer: Wurth Electronics; Current Rating: 3A; Number of Positions: 8; Gender: Male; Voltage Rating: 250V; Pitch: 0.1inch; Supplier 1: Newark; Manufacturer Part Number: 610108249121; RoHS: Yes; Category: Connectors; Stock 1: 350; Pricing 1: 1=1.53000, 10=1.52000, 25=1.49000, 50=1.46000, 100=1.36000 (USD); Mount: Surface Mount; Number of Pins: 8; Contact Material: Copper Alloy; Color: Black; Contact Plating: Gold; Contact Shape: Square; Contact Finish - Mating: GOLD; Insulation Material: Nylon; Insulation Color: Black; Packaging: Cut Tape; Number of Rows: 2; Termination: Solder; Number of Contacts: 8; Connector Type: Header; Fastening Type: Pull; Series: WR-PHD; Contact Type: Male Pin; Row Spacing: 0.1inch; Contact Mating Length: 0.236inch; RoHS Compliant: Yes; Flammability Rating: UL94 V-0; ComponentLink1URL: http://www.farnell.com/cad/1889791.pdf?src-supplier=Element14; ComponentLink1Description: http://www.farnell.com/cad/1889791.pdf?src-supplier=Element14; ComponentLink2URL: https://katalog.we-online.de/em/datasheet/6101xx249121.pdf?src-supplier=Digi-Key; ComponentLink2Description: https://katalog.we-online.de/em/datasheet/6101xx249121.pdf?src-supplier=Digi-Key; ComponentLink3URL: https://www.distrelec.bizhttp://katalog.we-online.de/em/datasheet/6101xx249121.pdf?mime=application%2Fpdf&src-supplier=Distrelec; ComponentLink3Description: https://www.distrelec.bizhttp://katalog.we-online.de/em/datasheet/6101xx249121.pdf?mime=application%2Fpdf&src-supplier=Distrelec; Supplier Part Number 1: 72Y1215
footprint CONN HDR 08 MALE RA 2ROW - duplicate
pins: 1, 2, 3, 4, 5, 6, 7, 8

## CONN SPKR JACK RA TH SJ-2509N
designator J?, comment SJ-2509N
2.5 mm, Stereo, Right Angle, Through Hole, Audio Jack Connector; Manufacturer: CUI Devices; Supplier 1: Digi-Key; Manufacturer Part Number: SJ-2509N; RoHS: Yes; Category: Audio / Video Connectors; Stock 1: 21425; Pricing 1: 1=0.73000, 10=0.63300, 25=0.57880, 50=0.54480, 100=0.52210, 250=0.47664, 500=0.45396, 1000=0.37452, 2500=0.34047 (USD); Supplier Part Number 1: CP-S2509N-ND
footprint CONN SPKR JACK SJ-2509N
pins: 1, 2, 3

## CONN TERM 2 5mm 691137710002
designator J?, comment 691137710002
Series 1377 - 5.00 mm Horizontal Entry with Pressure Clamp WR-TBL, 2 pin; Manufacturer: Wurth Electronics; Plating: Copper Alloy; Number of Levels: 1; Number of Positions Per Level: 2; Current: 16A; Voltage: 300V; Wire Gauge (Max): 30AWG; Wire Gauge (Min): 12AWG; Supplier 1: RSComponents; Manufacturer Part Number: 691137710002; RoHS: No; Category: Terminal Blocks; Stock 1: 201; Pricing 1: 500=0.28300, 1000=0.26300, 2500=0.24500 (USD); Mount: Through Hole; Color: Green; Housing Material: PC; Min Operating Temperature: -30°C; Max Operating Temperature: 120°C; Packaging: Bulk; Termination: Screw; ComponentLink1URL: https://katalog.we-online.de/em/datasheet/691137710002.pdf?src-supplier=Digi-Key; ComponentLink1Description: https://katalog.we-online.de/em/datasheet/691137710002.pdf?src-supplier=Digi-Key; Supplier Part Number 1: 1769908
footprint CON TERM BLK 2 691137710002 (Footprint not found)
pins: 1, 2

## CONN TERM 02 PLUG WIRE 691361300002
designator ?, comment 691361300002
Conn Terminal Block F 2 POS 3.81mm Screw RA Cable Mount 10A Box; Manufacturer: Wurth Electronics; Voltage Rating: 300V; Number of Positions Per Level: 2; Number of Levels: 1; Wire/Cable Gauge: 26AWG; Wire Gauge (Min): 16AWG; Pitch: 0.15inch; Stripping Length: -7mm; Supplier 1: RSComponents; Manufacturer Part Number: 691361300002; RoHS: Yes; Category: Terminal Blocks; Stock 1: 1; Pricing 1: 1=2.69000, 10=2.34000, 50=2.25900, 100=2.08500, 250=1.97700 (USD); Mount: Free Hanging; Case/Package: 300; Color: Green; Contact Material: Brass; Package Quantity: 620; Packaging: Bulk; Current Rating: 10A; Termination: Screw; Current: 10A; Voltage: 300V; Number of Contacts: 2; Series: WR-TBL Series 361; Length: 15.8mm; Width: 7.62mm; Height: 11.1mm; Wire Gauge (Max): 26AWG; REACH SVHC: Unknown; RoHS Compliant: Yes; ComponentLink1URL: https://datasheet.ciiva.com/7992/1442236-7992407.pdf?src-supplier=Element14; ComponentLink1Description: https://datasheet.ciiva.com/7992/1442236-7992407.pdf?src-supplier=Element14; ComponentLink2URL: https://datasheet.ciiva.com/796/6913613000xx-796212.pdf?src-supplier=Digi-Key; ComponentLink2Description: https://datasheet.ciiva.com/796/6913613000xx-796212.pdf?src-supplier=Digi-Key; Supplier Part Number 1: 8250828
text: PLUG

## CONN TERM 02 RA TH 691322310002
designator J?, comment 691322310002
322; 3.81mm Pitch Straight Pluggable Term Block; PCB Header; Through Hole; 2 Way; Manufacturer: Wurth Electronics; Number of Positions Per Level: 2; Number of Levels: 1; Current: 10A; Voltage: 300V; Pitch: 0.15inch; Supplier 1: RSComponents; Manufacturer Part Number: 691322310002; RoHS: Yes; Category: Terminal Blocks; Stock 1: 2489; Pricing 1: 1=0.35000, 10=0.32300, 50=0.25600, 100=0.24200 (USD); Mount: Through Hole; Contact Plating: Tin; Contact Material: Brass; Color: Green; Number of Rows: 1; Package Quantity: 620; Packaging: Bulk; Termination: Solder; Number of Contacts: 2; Series: WR-TBL Series 322; Length: 10.5mm; Width: 9.01mm; Height: 9.2mm; REACH SVHC: Unknown; RoHS Compliant: Yes; ComponentLink1URL: https://datasheet.ciiva.com/48692/001088715-da-01-en-wr-tbl-terminal-block322-691322310002-48692859.pdf?src-supplier=Conrad; ComponentLink1Description: https://datasheet.ciiva.com/48692/001088715-da-01-en-wr-tbl-terminal-block322-691322310002-48692859.pdf?src-supplier=Conrad; Supplier Part Number 1: 8246658
footprint CONN TERM 02 RA TH 691322310002
pins: 1, 2

## CONN USBC 6PIN RA
designator J?, comment USB4125-GF-A
6 Position 20 VDC 4.25 A USB Type C 2.0 Right Angle Receptacle USB Connector; Manufacturer: Global Connector Technology; Supplier 1: Newark; Manufacturer Part Number: USB4125-GF-A; RoHS: No; Stock 1: 3000; Pricing 1: 1=0.60400, 10=0.53100, 25=0.50000, 50=0.47900, 100=0.45800, 250=0.41600, 500=0.37500, 1000=0.37500 (USD); Supplier Part Number 1: 71AJ9395
footprint CONN USBC 6pin RA
pins: 0, A5 CC1, A9 VBUS, A12 GND, B5 CC2, B9 VBUS, B12 GND

## CONN USBC 12PIN RA SMD USB4110-GF-A
designator J?, comment USB4110-GF-A
Conn USB Type C RCP 16 POS 0.3mm/0.5mm Solder ST SMD 16 Terminal 1 Port T/R; Manufacturer: Global Connector Technology; Supplier 1: Newark; Manufacturer Part Number: USB4110-GF-A; RoHS: No; Category: USB Connectors; Stock 1: 4800; Pricing 1: 1=1.34000, 10=1.18000, 25=1.11000, 50=1.07000, 100=1.02000, 250=0.92400, 500=0.83200, 1200=0.83200 (USD); ComponentLink1URL: https://gct.co/files/drawings/usb4110.pdf?src-supplier=Digi-Key; ComponentLink1Description: https://gct.co/files/drawings/usb4110.pdf?src-supplier=Digi-Key; Supplier Part Number 1: 71AJ9394
footprint CONN USBC 12PIN RA SMD
pins: 0, A5 CC1, A6 DP1, A7 DN1, A8 SBU1, A9 VBUS, A12 GND, B5 CC2, B6 DP2, B7 DN2, B8 SBU2, B9 VBUS, B12 GND

## DIODE SHTKY 40V 500mA SOD-523
designator D?, comment 40V  Forward Current: 500mA
500 mA, 40 V, Schottky Barrier Diode Schottky Barrier Diode, 500 mA, 40 V; Manufacturer: ON Semiconductor; Manufacturer Part Number: NSR05T40XV2T5G; Reverse Recovery Time: 20ns; Forward Voltage: 640mV; Max Forward Surge Current (Ifsm): 3A; Element Configuration: Single; Supplier 1: Digi-Key; RoHS: Yes; Category: Schottky Diodes; Stock 1: 15606; Pricing 1: 1=0.39000, 10=0.31700, 100=0.16800, 500=0.11050, 1000=0.07514, 2000=0.06778 (USD); Mount: Surface Mount; Case/Package: SOD; Number of Pins: 2; Max Operating Temperature: 150°C; Packaging: Cut Tape; Average Rectified Current: 500mA; Max Repetitive Reverse Voltage (Vrrm): 40V; Max Reverse Voltage (DC): 40V; REACH SVHC: No SVHC; Lead Free: Lead Free; RoHS Compliant: Yes; ComponentLink1URL: http://www.farnell.com/datasheets/2118285.pdf?src-supplier=Farnell; ComponentLink1Description: http://www.farnell.com/datasheets/2118285.pdf?src-supplier=Farnell; ComponentLink2URL: http://www.onsemi.com/pub/Collateral/NSR05T40XV2-D.PDF?src-supplier=Digi-Key; ComponentLink2Description: http://www.onsemi.com/pub/Collateral/NSR05T40XV2-D.PDF?src-supplier=Digi-Key; ComponentLink3URL: http://www.farnell.com/datasheets/2118285.pdf?src-supplier=Element14; ComponentLink3Description: http://www.farnell.com/datasheets/2118285.pdf?src-supplier=Element14; Supplier Part Number 1: NSR05T40XV2T5GOSCT-ND
footprint SOD-523 ON 502-1E (Footprint not found)
pins: 1 A, 2 K

## DIODE TVS 22V SMA
designator TVS?, comment 22V
Zen Tvs 400W 22V Uni Do-214Ac Tr13 / Tr Rohs Compliant: Yes; Manufacturer: Littelfuse; Manufacturer Part Number: SZ1SMA22AT3G; Supplier 1: Digi-Key; RoHS: Yes; Category: TVS Diodes; Stock 1: 8478; Pricing 1: 1=0.61000, 10=0.52400, 100=0.39130, 500=0.30744, 1000=0.23758, 2000=0.21661 (USD); RoHS Compliant: Yes; Supplier Part Number 1: F11511CT-ND
footprint DIODE SMA (Footprint not found)
pins: 1 K, 2 A

## FB 68R 400mA 310mR 0402
designator FB?, comment 68R
Ferrite Beads Multi-Layer 68Ohm 25% 100MHz 400mA 310mOhm DCR 0402 T/R; Manufacturer: Taiyo Yuden; Manufacturer Part Number: BK1005LL680-T; DC Resistance (DCR): 310mR; Number of Lines: 1; Shielding: Unshielded; Supplier 1: Digi-Key; RoHS: Yes; Category: Ferrite Beads and Chips; Stock 1: 9707; Pricing 1: 1=0.10000, 10=0.04100, 25=0.03640, 50=0.03300, 100=0.02970, 250=0.02176, 500=0.01584, 1000=0.01551, 5000=0.01056 (USD); Mount: Surface Mount; Case/Package: 0402; Number of Pins: 2; Case Code (Metric): 1005; Case Code (Imperial): 0402; Core Material: Ferrite; Min Operating Temperature: -55°C; Max Operating Temperature: 125°C; Packaging: Tape and Reel; Package Quantity: 1; Impedance: 68R; Tolerance: 25%; Max DC Current: 400mA; Termination: SMD/SMT; Test Frequency: 100MHz; Max Current Rating: 400mA; Series: BK; Frequency: 100MHz; Length: 0.039inch; Width: 0.02inch; Height: 0.022inch; Depth: 0.55mm; Halogen Free: Halogen Free; Lead Free: Lead Free; REACH SVHC: Unknown; ComponentLink1URL: https://datasheet.ciiva.com/1013/bk1005ll680-t-ss-1013936.pdf?src-supplier=Digi-Key; ComponentLink1Description: https://datasheet.ciiva.com/1013/bk1005ll680-t-ss-1013936.pdf?src-supplier=Digi-Key; ComponentLink2URL: https://datasheet.ciiva.com/1013/mlci07-e-1013935.pdf?src-supplier=Digi-Key; ComponentLink2Description: https://datasheet.ciiva.com/1013/mlci07-e-1013935.pdf?src-supplier=Digi-Key; ComponentLink3URL: https://datasheet.ciiva.com/1013/mlci07-e-1013937.pdf?src-supplier=Digi-Key; ComponentLink3Description: https://datasheet.ciiva.com/1013/mlci07-e-1013937.pdf?src-supplier=Digi-Key; Supplier Part Number 1: 587-1860-1-ND
footprint FB0402 (Footprint not found)
pins: 1, 2

## IC COMP 2.5ns RRIO TLV3601DCKR
designator U?, comment TLV3601DCKR
2.5-ns high-speed rail-to-rail comparator with push-pull outputs 5-SC70 -40 to 125; Manufacturer: Texas Instruments; Supplier 1: Digi-Key; Manufacturer Part Number: TLV3601DCKR; RoHS: No; Stock 1: 1261; Pricing 1: 1=3.37000, 10=3.02700, 25=2.86200, 100=2.48040, 250=2.35320, 500=2.11152, 1000=2.10000 (USD); Supplier Part Number 1: 296-TLV3601DCKRCT-ND
footprint SC70 5pin TI DCK
pins: 1, 2 V-, 3 +, 4 -, 5 V+

## IC FF-D octal HC
designator U?, comment 74VHC574FT
D-Type Bus Interface Pos-Edge 3-ST 8-Element 20-Pin TSSOP; Manufacturer: Toshiba; Propagation Delay: 10.6ns; High Level Output Current: 8mA; Clock Edge Trigger Type: Positive Edge; Number of Elements: 1; Number of Bits per Element: 8; Frequency: 115MHz; Quiescent Current: 4uA; Input Capacitance: 4pF; Supplier 1: RSComponents; Manufacturer Part Number: 74VHC574FT; RoHS: Yes; Category: Latches and Flip Flops; Stock 1: 1; Pricing 1: 2500=0.02700 (USD); Mount: Surface Mount; Case/Package: TSSOP; Number of Pins: 20; Min Operating Temperature: -40°C; Max Operating Temperature: 85°C; Packaging: Cut Tape; Low Level Output Current: 8mA; RoHS Compliant: Yes; ComponentLink1URL: https://toshiba.semicon-storage.com/info/docget.jsp?did=14038&amp;prodName=74VHC574FT&src-supplier=Digi-Key; ComponentLink1Description: https://toshiba.semicon-storage.com/info/docget.jsp?did=14038&amp;prodName=74VHC574FT&src-supplier=Digi-Key; Supplier Part Number 1: 1713350
footprint TSOP20 - 65P640X120 (TSOP, 20-Leads, Body 6.50x4.40mm, Pitch 0.65mm, IPC Medium Density)
pins: 1 nOE, 2 D0, 3 D1, 4 D2, 5 D3, 6 D4, 7 D5, 8 D6, 9 D7, 10 GND, 11 CLK, 12 Q7, 13 Q6, 14 Q5, 15 Q4, 16 Q3, 17 Q2, 18 Q1, 19 Q0, 20 Vcc